# Altium footprint library OMRON G6K_2G_Y.PcbLib: 1 footprints
Each footprint in its own frame and in the unit in brackets; x right, y up, seen from the top. Pads: shape width x height; smd on the part's side, far side on the other; paste and mask are expansions set on the pad; w line width, h text height; cw(c..) or ccw(c..) is an arc to the next point about the centre after c.
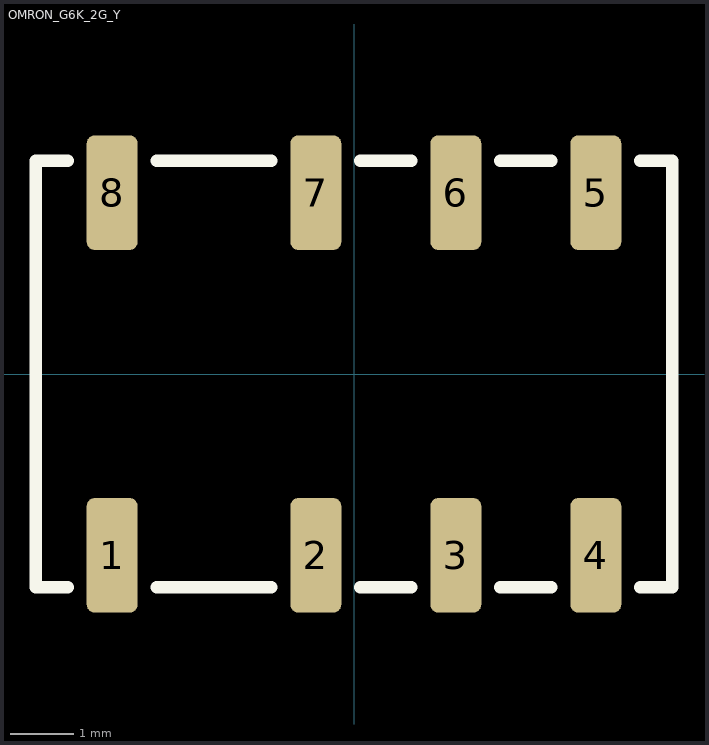
[diagram p0: the footprint, top view; thin cyan lines are the x and y axes]

## OMRON_G6K_2G_Y [mm]
pads (8):
  rrect30% 0.8x1.8 smd: 1(-3.8,-2.85) 2(-0.6,-2.85) 3(1.6,-2.85) 4(3.8,-2.85) 5(3.8,2.85) 6(1.6,2.85) 7(-0.6,2.85) 8(-3.8,2.85)
Top Overlay:
  lines w0.2: -4.5,-3.35 -5,-3.35 -5,3.35 -4.5,3.35 ; -3.1,-3.35 -1.3,-3.35 ; -3.1,3.35 -1.3,3.35 ; 0.1,-3.35 0.9,-3.35 ; 0.1,3.35 0.9,3.35 ; 2.3,-3.35 3.1,-3.35 ; 2.3,3.35 3.1,3.35 ; 4.5,-3.35 5,-3.35 5,3.35 4.5,3.35
3D body "User Library-RLY DPDT OMRON G6K-2G-Y.step": height 5.85, standoff 0, extent -5,-3.35 5,3.35